# EAGLE library part RN-52-CN2 (library PartsForProto)
RN-52 インターフェース用ピン
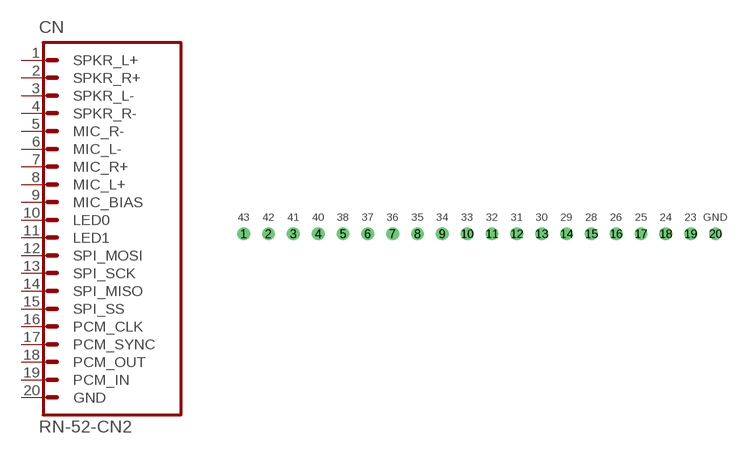
[diagram p7: symbol with the pads of RN-52-CN2; footprint RN-52-CN2]

Designator prefix CN

## RN-52-CN2  [RN-52-CN2]
1  SPKR_L+
2  SPKR_R+
3  SPKR_L-
4  SPKR_R-
5  MIC_R-
6  MIC_L-
7  MIC_R+
8  MIC_L+
9  MIC_BIAS
10  LED0
11  LED1
12  SPI_MOSI
13  SPI_SCK
14  SPI_MISO
15  SPI_SS
16  PCM_CLK
17  PCM_SYNC
18  PCM_OUT
19  PCM_IN
20  GND

## Footprint RN-52-CN2 (pad centres in mm)
RN-52 インターフェース用ピン
drill 0.813: 1 0,0; 2 2.54,0; 3 5.08,0; 4 7.62,0; 5 10.16,0; 6 12.7,0; 7 15.24,0; 8 17.78,0; 9 20.32,0; 10 22.86,0; 11 25.4,0; 12 27.94,0; 13 30.48,0; 14 33.02,0; 15 35.56,0; 16 38.1,0; 17 40.64,0; 18 43.18,0; 19 45.72,0; 20 48.26,0